# Altium footprint library 28Pin_pcblib.PcbLib: 22 footprints (part 1 of 2)
Each footprint in its own frame and in the unit in brackets; x right, y up, seen from the top. Pads: shape width x height; smd on the part's side, far side on the other; paste and mask are expansions set on the pad; w line width, h text height; cw(c..) or ccw(c..) is an arc to the next point about the centre after c.
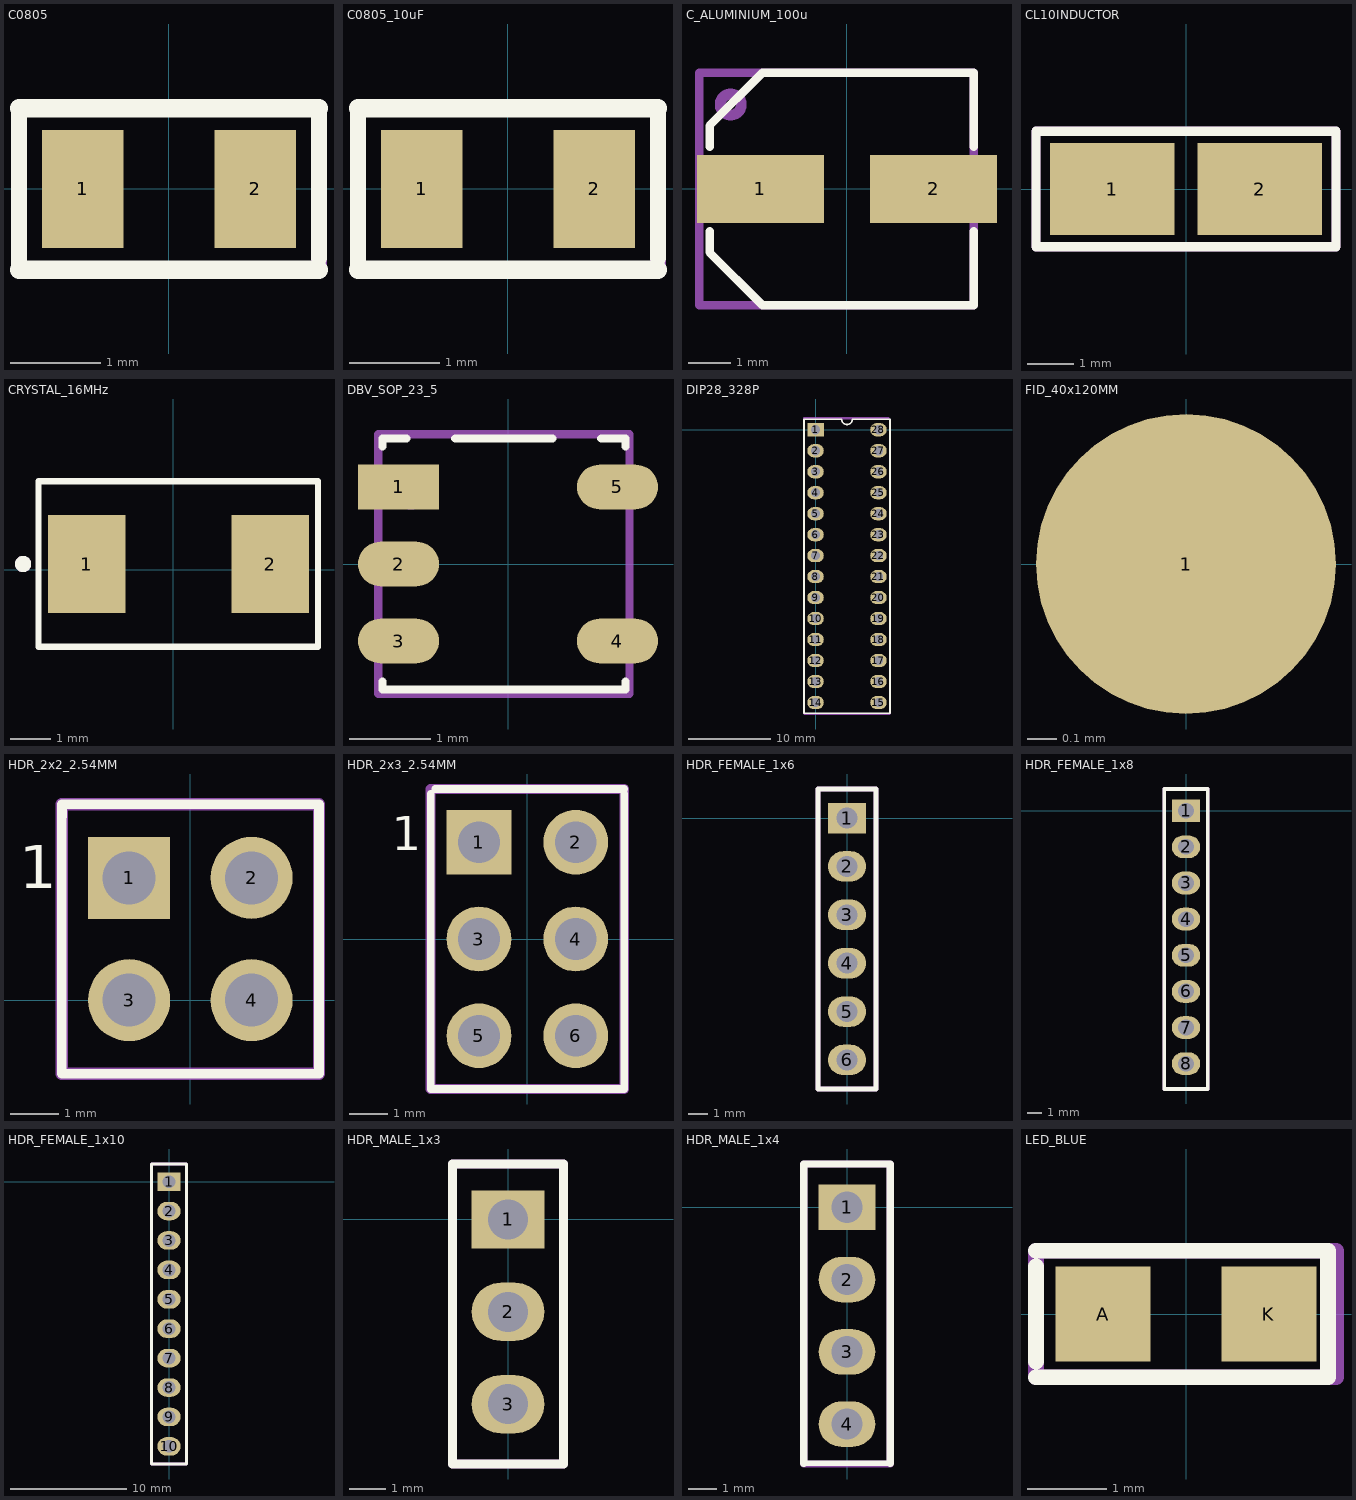
[diagram p0: the footprints below, top view; thin cyan lines are the x and y axes]

## C0805 [mm]
pads (2):
  rect 0.9x1.3 smd: 1(-0.95,0) 2(0.95,0)
Top Overlay:
  lines w0.178: -1.651,-0.889 -1.651,0.889 ; 1.651,-0.762 1.651,0.889
  lines w0.2: -1.651,-0.889 1.651,-0.889 ; -1.651,0.889 1.651,0.889
Mechanical 29:
  lines w0.178: -1.651,-0.889 1.651,-0.889 1.651,0.889 -1.651,0.889 -1.651,-0.762
  text ".Designator" at -2.413,-0.429 h1
3D body "CAPC2012X95N EIA 0805.step": height 0.96, standoff 0.01, extent -0.984,-0.6 1.016,0.6

## C0805_10uF [mm]
pads (2):
  rect 0.9x1.3 smd: 1(-0.95,0) 2(0.95,0)
Top Overlay:
  lines w0.178: -1.651,-0.889 -1.651,0.889 ; 1.651,-0.762 1.651,0.889
  lines w0.2: -1.651,-0.889 1.651,-0.889 ; -1.651,0.889 1.651,0.889
Mechanical 29:
  lines w0.178: -1.651,-0.889 1.651,-0.889 1.651,0.889 -1.651,0.889 -1.651,-0.762
  text ".Designator" at -2.413,-0.429 h1
3D body "CAPC2012X95N EIA 0805.step": height 1.46, standoff 0.51, extent -1.05,-0.65 0.95,0.55
3D body "CAPC2012X95N EIA 0805.step": height 0.96, standoff 0.01, extent -1.05,-0.65 0.95,0.55

## C_ALUMINIUM_100u [mm]
pads (2):
  rect 3x1.6 smd: 1(-2.05,0) 2(2.05,0)
Top Overlay:
  lines w0.2: -3.25,-1 -3.25,-1.5 -2,-2.75 ; -3.25,1 -3.25,1.25 -3.25,1.5 -2,2.75 3,2.75 3,1 ; -1.75,-2.75 -2,-2.75 ; 3,-1 3,-2.75 -2,-2.75
Mechanical 1:
  circle w0.254: c-2.75,2 r0.25
Mechanical 29:
  lines w0.2: -2.25,-2.75 3,-2.75 3,2.75 -3.5,2.75 -3.5,-2.75 -1.75,-2.75
  text ".Designator" at -2.996,-1.988 h1.52
3D body "User Library-capacitor size C.step": height 5.41, standoff -0.01, extent -3.15,-2.55 2.75,2.75

## CL10INDUCTOR [mm]
pads (2):
  rect 2.7x2 smd: 1(-1.6,0) 2(1.6,0)
Top Overlay:
  lines w0.2: -3.25,-1.25 -3.25,1.25 3.25,1.25 3.25,-1.25 -3.25,-1.25
Mechanical 29:
  lines w0.2: -3.25,-1.25 -3.25,1.25 3.25,1.25 3.25,-1.25 -3.25,-1.25
  text ".Designator" at -2.496,-0.738 h1.52
3D body "L1210R2R2MDWIT.step": height 2.67, standoff -0.03, extent -1.95,-1.2 1.45,1.5

## CRYSTAL_16MHz [mm]
pads (2):
  rect 1.9x2.4 smd: 1(-2.123,0.147) 2(2.377,0.147)
Top Overlay:
  circle w0.2: c-3.683,0.147 r0.1
  lines w0.152: -2.921,-1.885 3.079,-1.885 3.556,-1.885 3.556,1.925 3.556,2.179 -3.302,2.179 -3.302,-1.885 3.048,-1.885 ; -2.921,2.179 3.079,2.179
Mechanical 13:
  circle w0.2: c-3.683,0.147 r0.1
  lines w0.127: -3.302,-1.885 3.556,-1.885 3.556,2.179 -3.302,2.179 -3.302,-1.885
  text ".Designator" at -3.429,-1.472 h1.52
Mechanical 15:
  lines w0.05: -3.323,-1.853 -3.323,2.147 3.577,2.147 3.577,-1.853 -3.323,-1.853
3D body "ECS-160-S-23A-EN-TR.STEP": height 1.11, standoff 0.01, extent -2.873,-1.603 3.127,1.897

## DBV_SOP_23_5 [mm]
pads (5):
  rect 1x0.55 smd: 1(-1.35,0.95)
  oval 1x0.55 smd: 2(-1.35,0) 3(-1.35,-0.95) 4(1.35,-0.95) 5(1.35,0.95)
Top Overlay:
  lines w0.1: -1.55,-1.45 -1.55,-1.55 1.45,-1.55 1.45,-1.45 ; -1.55,1.45 -1.55,1.55 -1.25,1.55 ; -0.65,1.55 0.55,1.55 ; 1.15,1.55 1.45,1.55 1.45,1.45
Mechanical 29:
  circle w0.254: c-1.2,0.9 r0.1
  lines w0.1: -1.6,-1.6 -1.6,1.6 1.5,1.6 1.5,-1.6 -1.6,-1.6
  text ".Designator" at -1.5,-1.312 h1
3D body "SN74AHC1G09DBVR.STEP": height 1.44, standoff -0.01, extent -1.45,-1.46 1.35,1.44

## DIP28_328P [mm]
pads (28):
  rect 2x1.6 hole 1.1: 1(0,0)
  oval 2x1.6 hole 1.1: 2(0,-2.54) 3(0,-5.08) 4(0,-7.62) 5(0,-10.16) 6(0,-12.7) 7(0,-15.24) 8(0,-17.78) 9(0,-20.32) 10(0,-22.86) 11(0,-25.4) 12(0,-27.94) 13(0,-30.48) 14(0,-33.02) 15(7.62,-33.02) 16(7.62,-30.48) 17(7.62,-27.94) 18(7.62,-25.4) 19(7.62,-22.86) 20(7.62,-20.32) 21(7.62,-17.78) 22(7.62,-15.24) 23(7.62,-12.7) 24(7.62,-10.16) 25(7.62,-7.62) 26(7.62,-5.08) 27(7.62,-2.54) 28(7.62,0)
Bottom Layer:
  circle w0.254: c0,0 r0.597
Top Overlay:
  circle w0.254: c0,0 r0.335
  lines w0.2: -1.39,-34.31 1.21,-34.31 6.41,-34.31 9.01,-34.31 9.01,1.27 4.445,1.27 cw(c3.81,1.27) 3.175,1.27 -1.39,1.27 -1.39,-34.31
Mechanical 29:
  circle w0.254: c0,0 r0.25
  lines w0.254: -1.39,1.29 -1.39,-34.31 -1.29,-34.41 8.91,-34.41 9.01,-34.31 9.01,1.19 8.81,1.39 -1.39,1.39
  text ".Designator" at 4.19,-26.407 h2
3D body "User Library-28 pin dip-1.step": height 4.65, standoff -1.57, extent -0.15,-34.421 7.724,1.521

## FID_40x120MM [mil]
pads (1):
  round 40 smd paste-40 mask+40: 1(0,0)

## HDR_2x2_2.54MM [mm]
pads (4):
  rect 1.7x1.7 hole 1.1: 1(-1.27,2.54)
  round 1.7 hole 1.1: 2(1.27,2.54) 3(-1.27,0) 4(1.27,0)
Top Overlay:
  lines w0.2: -2.667,3.81 -2.667,-1.524 2.667,-1.524 2.667,3.81
  lines w0.203: -2.667,3.81 -2.667,4.064 2.667,4.064 2.667,3.556
  text "1" at -3.556,2.032 h1.52
Mechanical 29:
  circle w0.254: c-1.27,2.54 r0.254
  lines w0.254: -2.667,-1.524 2.667,-1.524 2.667,4.064 -2.667,4.064 -2.667,-1.524
  text ".Designator" at -2.667,-0.508 h1.52
3D body "m20-9980245_asm.stp": height 8.05, standoff -3.63, extent -2.54,-1.27 2.54,3.81

## HDR_2x3_2.54MM [mm]
pads (6):
  rect 1.7x1.7 hole 1.1: 1(-1.27,2.54)
  round 1.7 hole 1.1: 2(1.27,2.54) 3(-1.27,0) 4(1.27,0) 5(-1.27,-2.54) 6(1.27,-2.54)
Top Overlay:
  lines w0.2: -2.54,3.81 -2.54,-3.937 2.54,-3.937 2.54,3.81 ; -2.413,3.937 0.635,3.937 ; -0.635,3.937 2.54,3.937
  text "1" at -3.556,2.032 h1.52
Mechanical 29:
  circle w0.254: c-1.27,2.54 r0.254
  lines w0.254: -2.54,-3.937 -2.54,-2.667 -2.54,3.937 2.54,3.937 2.54,-3.937 -2.54,-3.937
  text ".Designator" at -2.159,-1.524 h1.52
3D body "m20-9980346_asm.stp": height 2.58, standoff -9.1, extent -2.64,-3.9 2.44,3.72

## HDR_FEMALE_1x6 [mm]
pads (6):
  rect 2x1.6 hole 1.1: 1(0,0)
  oval 2x1.6 hole 1.1: 2(0,-2.54) 3(0,-5.08) 4(0,-7.62) 5(0,-10.16) 6(0,-12.7)
Top Overlay:
  lines w0.254: -1.524,-14.224 -1.524,1.524 1.524,1.524 1.524,-14.224 ; -1.524,-14.224 1.524,-14.224 ; -1.524,-14.224 -0.762,-14.224 0.762,-14.224 1.524,-14.224
Mechanical 29:
  circle w0.254: c0,0 r0.254
  lines w0.254: -1.524,-14.224 -1.524,1.524 1.524,1.524 1.524,-14.224 ; -1.524,-14.224 1.524,-14.224 ; -1.524,-14.224 -0.762,-14.224 0.762,-14.224 1.524,-14.224
  text ".Designator" at 0.508,-19.05 h1.52
3D body "m20-7820646_asm.stp": height 8.51, standoff -2.99, extent -1.176,-14.252 1.324,1.388

## HDR_FEMALE_1x8 [mm]
pads (8):
  rect 2x1.6 hole 1.1: 1(0,0)
  oval 2x1.6 hole 1.1: 2(0,-2.54) 3(0,-5.08) 4(0,-7.62) 5(0,-10.16) 6(0,-12.7) 7(0,-15.24) 8(0,-17.78)
Top Overlay:
  lines w0.254: -1.524,-19.558 -1.524,1.524 1.524,1.524 1.524,-19.558 0.762,-19.558 -0.762,-19.558 -1.524,-19.558
Mechanical 29:
  circle w0.254: c0,0 r0.254
  lines w0.254: -1.524,-19.558 1.524,-19.558 1.524,1.524 -1.524,1.524 -1.524,-19.558
  text ".Designator" at 0.508,-19.05 h1.52
3D body "m20-7820842_asm.stp": height 8.51, standoff -2.99, extent -1.27,-19.25 1.23,1.47

## HDR_FEMALE_1x10 [mm]
pads (10):
  rect 2x1.6 hole 1.1: 1(0,0)
  oval 2x1.6 hole 1.1: 2(0,-2.54) 3(0,-5.08) 4(0,-7.62) 5(0,-10.16) 6(0,-12.7) 7(0,-15.24) 8(0,-17.78) 9(0,-20.32) 10(0,-22.86)
Top Overlay:
  lines w0.254: -1.524,-24.384 1.524,-24.384 1.524,1.524 -1.524,1.524 -1.524,-24.384
Mechanical 29:
  circle w0.254: c0,0 r0.254
  lines w0.254: -1.524,-24.384 1.524,-24.384 1.524,1.524 -1.524,1.524 -1.524,-24.384
  text ".Designator" at 0.508,-19.05 h1.52
3D body "m20-7821046_asm.stp": height 8.51, standoff -2.99, extent -1.27,-24.33 1.23,1.47

## HDR_MALE_1x3 [mm]
pads (3):
  rect 2x1.6 hole 1.1: 1(0,0)
  oval 2x1.6 hole 1.1: 2(0,-2.54) 3(0,-5.08)
Top Overlay:
  lines w0.254: -1.524,-6.724 -1.524,1.524 1.524,1.524 1.524,-6.724 -1.524,-6.724
Mechanical 29:
  circle w0.254: c0,0 r0.254
  lines w0.254: -1.524,-6.724 -1.524,1.524 1.524,1.524 1.524,-6.724 -1.524,-6.724
  text ".Designator" at 0.538,-14.046 h1.52
3D body "M20-9990345--3DModel-STEP-56544.STEP": height 8.65, standoff -2.99, extent -1.2,-6.31 1.34,1.31

## HDR_MALE_1x4 [mm]
pads (4):
  rect 2x1.6 hole 1.1: 1(0,0)
  oval 2x1.6 hole 1.1: 2(0,-2.54) 3(0,-5.08) 4(0,-7.62)
Top Overlay:
  lines w0.2: -1.524,-9 1.524,-9
  lines w0.254: -1.524,-9 -1.524,1.524 1.524,1.524 1.524,-9
Mechanical 29:
  circle w0.254: c0,0 r0.254
  lines w0.254: -1.524,-9.024 -1.524,1.524 1.524,1.524 1.524,-9.024 -1.524,-9.024
  text ".Designator" at 0.438,-11.646 h1.52
3D body "61300411121_Download_STP_61300411121_rev1.stp": height 8.47, standoff -3.07, extent -1.3,-8.78 1.24,1.38

## LED_BLUE [mm]
pads (2):
  rect 1.2x1.2 smd: A(-1.05,0) K(1.05,0)
Top Overlay:
  lines w0.2: -1.9,-0.8 1.8,-0.8 1.8,0.8 -1.9,0.8 ; -1.9,-0.6 -1.9,0.6
Mechanical 29:
  circle w0.254: c-1.1,0 r0.1
  lines w0.2: -1.9,-0.8 1.9,-0.8 1.9,0.8 -1.9,0.8 -1.9,-0.8
3D body "APHCM2012.STEP": height 0.41, standoff 0.01, extent -1,-0.6 1,0.65